# EAGLE library part SCP1000 (library paparazzi)
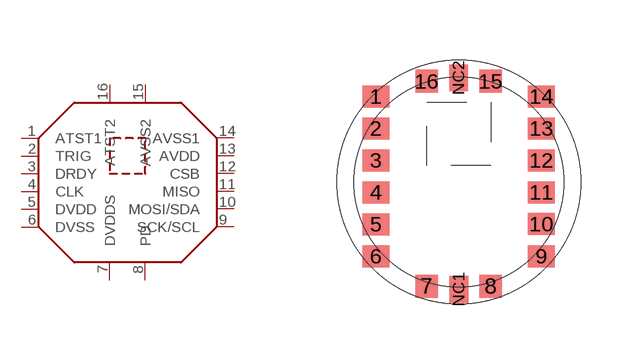
[diagram p53: symbol with the pads of SCP1000; footprint SCP1000]

Designator prefix -

## SCP1000  [SCP1000]
1  ATST1
2  TRIG
3  DRDY
4  CLK
5  DVDD
6  DVSS
7  DVDDS
8  PD
9  SCK/SCL
10  MOSI/SDA
11  MISO
12  CSB
13  AVDD
14  AVSS1
15  AVSS2
16  ATST2

## Footprint SCP1000 (pad centres in mm)
smd 0.67 x 0.55: 1 -2.07,2.135; 2 -2.07,1.335; 3 -2.07,0.535; 4 -2.07,-0.265; 5 -2.07,-1.065; 6 -2.07,-1.865; 9 2.07,-1.865; 10 2.065,-1.06; 11 2.07,-0.265; 12 2.07,0.535; 13 2.07,1.335; 14 2.07,2.135
smd 0.57 x 0.57: 7 -0.8,-2.615; 8 0.8,-2.615; 15 0.8,2.515; 16 -0.8,2.515
smd 0.47 x 0.67: NC1 0.005,-2.695; NC2 0,2.6